# EAGLE library part ADE-92MH (library rfops)
ADE-92MH Mini-Circuits Mixer
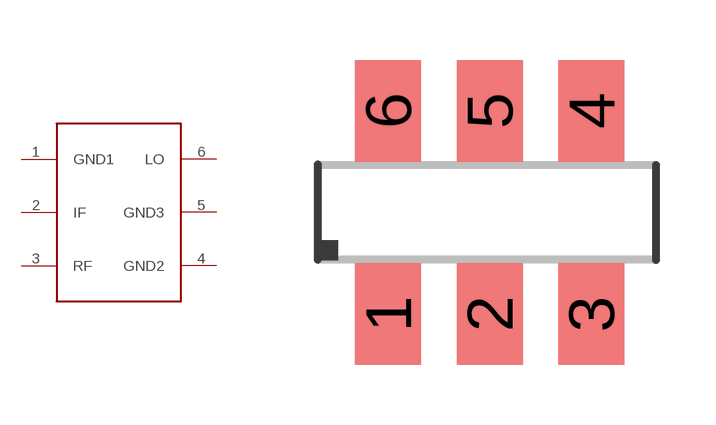
[diagram p11: symbol with the pads of CD636; footprint CD636]

Designator prefix MIX

## ADE-92MH  [CD636]
1  GND1  pwr
2  IF
3  RF
4  GND2  pwr
5  GND3  pwr
6  LO  in

## Footprint CD636 (pad centres in mm)
Mini-Circuits CD636 package
smd 1.65 x 2.54: 1 -2.54,-2.54; 2 0,-2.54; 3 2.54,-2.54; 4 2.54,2.54; 5 0,2.54; 6 -2.54,2.54